# EAGLE library part INA21X (library bqevm_additional_ti_ics)
According to: http://www.ti.com/lit/ds/symlink/ina214.pdf
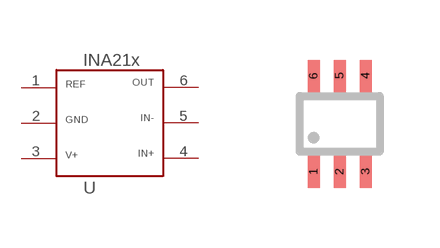
[diagram p6: symbol with the pads of SC70; footprint SC70]

Designator prefix U

## INA21XSC70  [SC70]
1  1
2  2
3  3
4  4
5  5
6  6

## Footprint SC70 (pad centres in mm)
According to: http://www.ti.com/lit/ml/mpds114c/mpds114c.pdf
smd 0.3 x 0.8: 1 -0.65,-1.2; 2 0,-1.2; 3 0.65,-1.2; 4 0.65,1.2; 5 0,1.2; 6 -0.65,1.2